# Altium footprint library OMRON_LY2.PcbLib: 1 footprints
Each footprint in its own frame and in the unit in brackets; x right, y up, seen from the top. Pads: shape width x height; smd on the part's side, far side on the other; paste and mask are expansions set on the pad; w line width, h text height; cw(c..) or ccw(c..) is an arc to the next point about the centre after c.
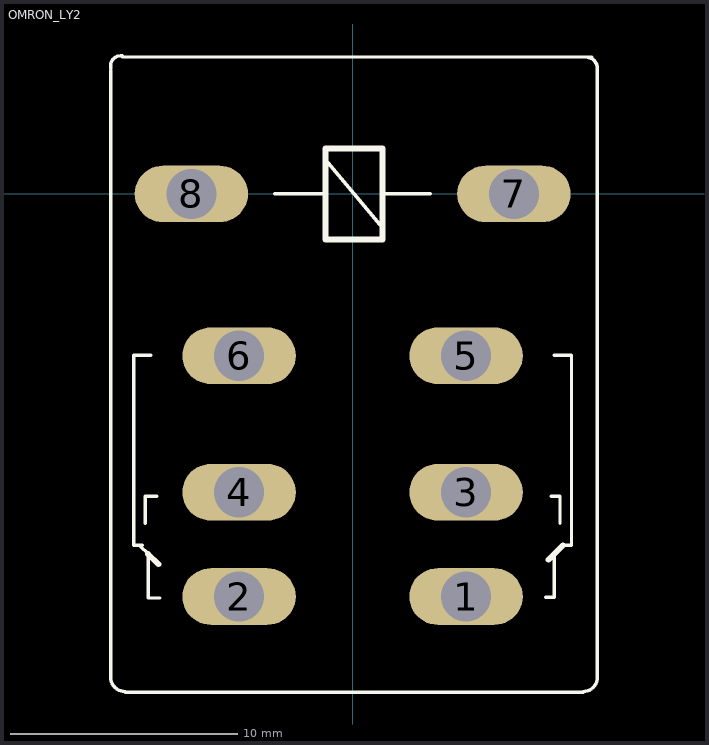
[diagram p0: the footprint, top view; thin cyan lines are the x and y axes]

## OMRON_LY2 [mil]
pads (8):
  oval 196.85x98.43 hole 87: 1(197,-699) 2(-197,-699) 3(197,-518) 4(-197,-518) 5(197,-281) 6(-197,-281) 7(280,0) 8(-280,0)
Top Overlay:
  lines w6: -420,215 -420,-839 ccw(c-395,-839) -395,-864 ; -419.63,217.64 cw(c-402.5,222) -400,239.5 ; -400,237.64 415,237.64 ; -395,-865 400,-865 ; -368.5,-611.5 -355,-625 -355,-701.5 -335,-701.5 ; -365,-610 -380,-610 -380,-280 -350,-280 ; -360,-572 -360,-525 -340,-525 ; -135,0 -47,0 ; -47,59 52,-59 ; 52,0 135,0 ; 335,-700 350,-700 350,-625 ; 345,-525 360,-525 360,-572 ; 350,-280 380,-280 380,-610 365,-610 ; 400,-864 ccw(c400,-839) 425,-839 425,220 ; 405,237.64 cw(c405,217.64) 425,217.64
  lines w10: -355,-625 -337,-643 ; 340,-635 353,-622 ; 350,-625 365,-610 ; -47,-79 -47,0 -47,59 -47,79 52,79 52,0 52,-59 52,-79 -47,-79